# Altium schematic symbol library lib-tom.Schlib: 12 symbols
Pins are listed as number, name and electrical type; pins without a type are passive.

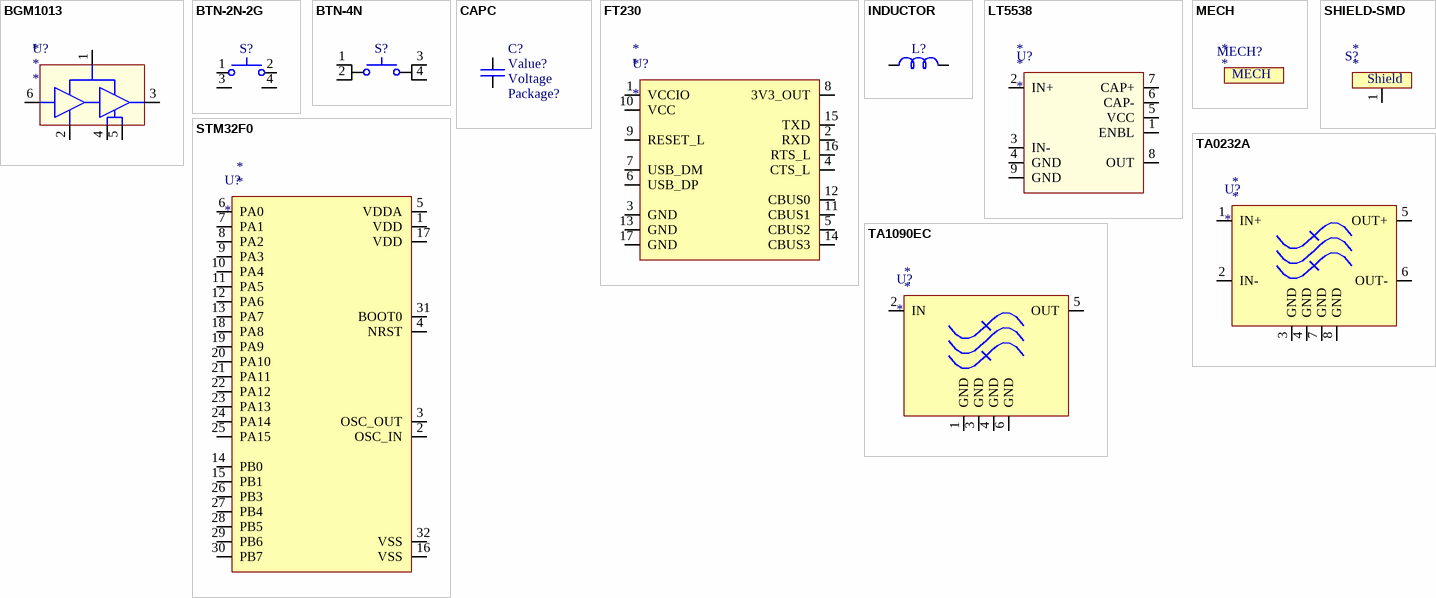
[diagram p0: symbols BGM1013 to TA1090EC]

## BGM1013
designator U?
RF Amplifier, 0-2.2GHz, 35.5dB, 6-TSSOP; Manufacturer: *; Manufacturer Part Number: *
pins: 1 VDD, 2 GND, 3 RF_OUT, 4 GND, 5 GND, 6 RF_IN

## BTN-2N-2G
designator S?, comment Push Button  (value not drawn)
pins: 1, 2, 3, 4

## BTN-4N
designator S?, comment Push Button  (value not drawn)
pins: 1, 2, 3, 4

## CAPC
designator C?, comment value Value?  Package: Package?  (hidden comment: Ceramic Capacitor)
Non-Polarized Ceramic Capacitor; Tolerance: *; Dielectric: *; Voltage: Voltage
pins: 1, 2

## FT230
designator U?
USB Serial Translator, Basic; Manufacturer: *; Manufacturer Part Number: *
pins: 1 VCCIO, 2 RXD, 3 GND, 4 CTS_L, 5 CBUS2, 6 USB_DP, 7 USB_DM, 8 3V3_OUT, 9 RESET_L, 10 VCC, 11 CBUS1, 12 CBUS0, 13 GND, 14 CBUS3, 15 TXD, 16 RTS_L, 17 GND

## INDUCTOR
designator L?, comment Inductor  (value not drawn)
pins: 1, 2

## LT5538
designator U?
RF Log Power Detector, 40 MHz-3.8GHz, -75dBm - 10dBm, 3-5.25V, 8WFDFN; Manufacturer: *; Manufacturer Part Number: *
pins: 1 ENBL, 2 IN+, 3 IN-, 4 GND, 5 VCC, 6 CAP-, 7 CAP+, 8 OUT, 9 GND

## MECH
designator MECH?, comment Mechanical  (value not drawn)
Mechanical Component; Manufacturer: *; Manufacturer Part Number: *

## SHIELD-SMD
designator S?, comment Sheild  (value not drawn)
Shield Cabinet; Manufacturer: *; Manufacturer Part Number: *
pins: 1
text: Shield

## STM32F0
designator U?
MCU, ARM M0, 32K Flash, 32LQFP; Manufacturer: *; Manufacturer Part Number: *
pins: 1 VDD, 2 OSC_IN, 3 OSC_OUT, 4 NRST, 5 VDDA, 6 PA0, 7 PA1, 8 PA2, 9 PA3, 10 PA4, 11 PA5, 12 PA6, 13 PA7, 14 PB0, 15 PB1, 16 VSS, 17 VDD, 18 PA8, 19 PA9, 20 PA10, 21 PA11, 22 PA12, 23 PA13, 24 PA14, 25 PA15, 26 PB3, 27 PB4, 28 PB5, 29 PB6, 30 PB7, 31 BOOT0, 32 VSS

## TA0232A
designator U?
Filter, SAW, 1090 MHz, 30 MHz BW, Balanced; Manufacturer: *; Manufacturer Part Number: *
pins: 1 IN+, 2 IN-, 3 GND, 4 GND, 5 OUT+, 6 OUT-, 7 GND, 8 GND

## TA1090EC
designator U?
Filter, SAW, 1090 MHz, 30 MHz BW, Unbalanced; Manufacturer: *; Manufacturer Part Number: *
pins: 1 GND, 2 IN, 3 GND, 4 GND, 5 OUT, 6 GND